# EAGLE library part HP5082H (library display-hp)
LED DISPLAY 1-character dot matrix, 2 decimal points
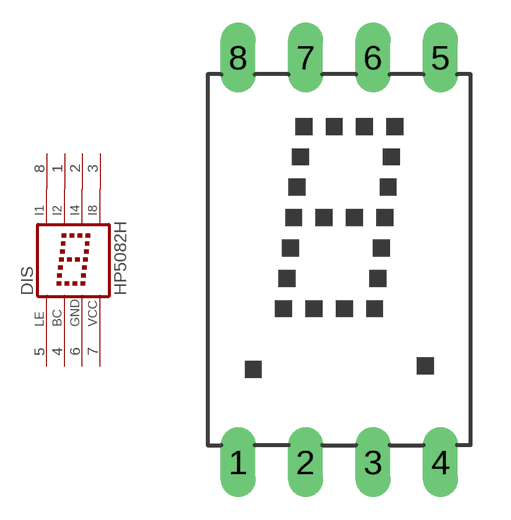
[diagram p26: symbol with the pads of HP5082; footprint HP5082]

Designator prefix DIS

## HP5082H (OC_FARNELL: unknown; OC_NEWARK: unknown)  [HP5082]
1  I2  in
2  I4  in
3  I8  in
4  BC  in
5  LE  in
6  GND  pwr
7  VCC  pwr
8  I1  in

## Footprint HP5082 (pad centres in mm)
LED DISPLAY 8-mm 1 character dot matrix, 2 decimal points
drill 0.813 long: 1 -3.81,-7.62; 2 -1.27,-7.62; 3 1.27,-7.62; 4 3.81,-7.62; 5 3.81,7.62; 6 1.27,7.62; 7 -1.27,7.62; 8 -3.81,7.62